# Altium footprint library xNEO-48.PcbLib: 1 footprints
Each footprint in its own frame and in the unit in brackets; x right, y up, seen from the top. Pads: shape width x height; smd on the part's side, far side on the other; paste and mask are expansions set on the pad; w line width, h text height; cw(c..) or ccw(c..) is an arc to the next point about the centre after c.
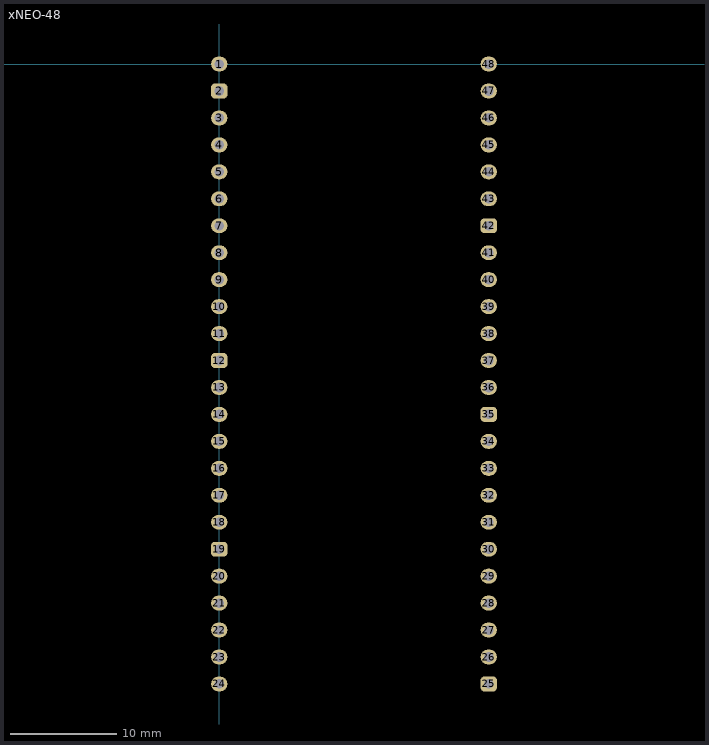
[diagram p0: the footprint, top view; thin cyan lines are the x and y axes]

## xNEO-48 [mm] "2.54mm"
pads (48):
  oval 1.55x1.4 hole 0.9 mask+0: 1(0,0) 3(0,-5.08) 4(0,-7.62) 5(0,-10.16) 6(0,-12.7) 7(0,-15.24) 8(0,-17.78) 9(0,-20.32) 10(0,-22.86) 11(0,-25.4) 13(0,-30.48) 14(0,-33.02) 15(0,-35.56) 16(0,-38.1) 17(0,-40.64) 18(0,-43.18) 20(0,-48.26) 21(0,-50.8) 22(0,-53.34) 23(0,-55.88) 24(0,-58.42) 26(25.4,-55.88) 27(25.4,-53.34) 28(25.4,-50.8) 29(25.4,-48.26) 30(25.4,-45.72) 31(25.4,-43.18) 32(25.4,-40.64) 33(25.4,-38.1) 34(25.4,-35.56) 36(25.4,-30.48) 37(25.4,-27.94) 38(25.4,-25.4) 39(25.4,-22.86) 40(25.4,-20.32) 41(25.4,-17.78) 43(25.4,-12.7) 44(25.4,-10.16) 45(25.4,-7.62) 46(25.4,-5.08) 47(25.4,-2.54) 48(25.4,0)
  rrect50% 1.55x1.4 hole 0.9 mask+0: 2(0,-2.54) 12(0,-27.94) 19(0,-45.72) 25(25.4,-58.42) 35(25.4,-33.02) 42(25.4,-15.24)